# EAGLE library part AG9800 (library silvertell)
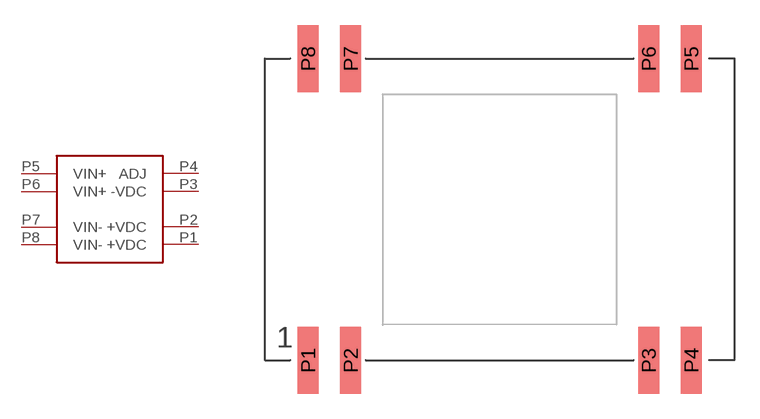
[diagram p0: symbol with the pads of AG9800M; footprint AG9800M]

Designator prefix -

## AG9800AG9800M  [AG9800M]
P1  +VDC
P2  +VDC
P3  -VDC
P4  ADJ
P5  VIN+
P6  VIN+
P7  VIN-
P8  VIN-

## Footprint AG9800M (pad centres in mm)
smd 1.25 x 4: P1 -11.43,-9; P2 -8.89,-9; P3 8.89,-9; P4 11.43,-9; P5 11.43,9; P6 8.89,9; P7 -8.89,9; P8 -11.43,9